# Altium schematic symbol library CN HDR 3POS JST XH.SchLib: 1 symbol
Pins are listed as number, name and electrical type; pins without a type are passive.

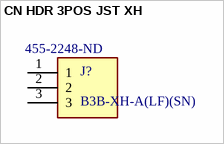
[diagram p0: symbol CN HDR 3POS JST XH]

## CN HDR 3POS JST XH
designator J?, comment B3B-XH-A(LF)(SN)  Supplier Part Number 1: 455-2248-ND
Connector Header Through Hole 3 position 0.098 (2.50mm); MF: JST Sales; Check_prices: https://www.snapeda.com/parts/B3B-XH-A(LF)(SN)/JST%20Sales%20America%20Inc./view-part/231271/?ref=eda; Value: *; Package: None; Price: None; Availability: In Stock; MP: B3B-XH-A(LF)(SN); SnapEDA_Link: https://www.snapeda.com/parts/B3B-XH-A(LF)(SN)/JST%20Sales%20America%20Inc./view-part/231271/?ref=snap; Supplier 1: Digi-Key
footprint JST_B3B-XH-A(LF)(SN)
pins: 1, 2, 3